# Altium footprint library pcb_mk32_dsd_2022-03-23.PcbLib: 35 footprints (part 3 of 3)
Each footprint in its own frame and in the unit in brackets; x right, y up, seen from the top. Pads: shape width x height; smd on the part's side, far side on the other; paste and mask are expansions set on the pad; w line width, h text height; cw(c..) or ccw(c..) is an arc to the next point about the centre after c.
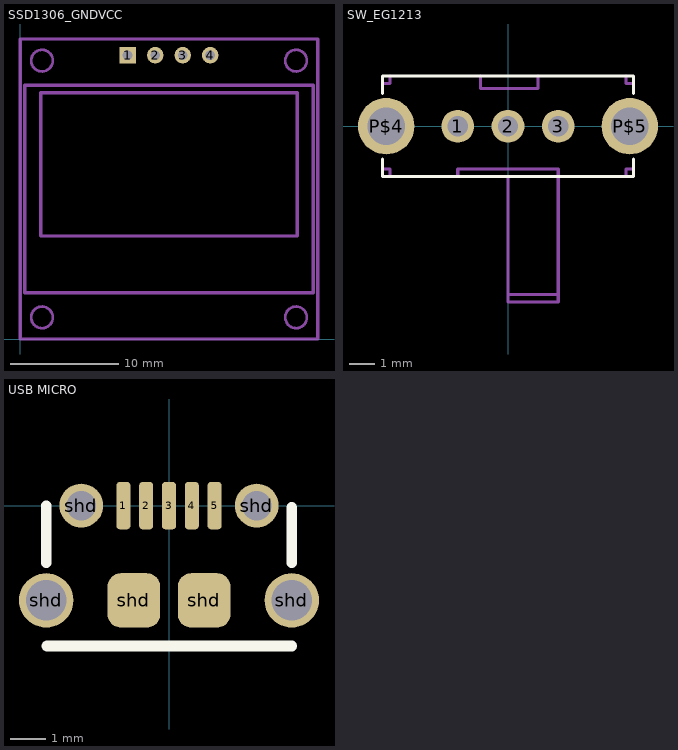
[diagram p2: the footprints below, top view; thin cyan lines are the x and y axes]

## SSD1306_GNDVCC [mil]
pads (4):
  rect 60x60 hole 36: 1(390.59,1033.48)
  round 60 hole 36: 2(491.3,1033.5) 3(591.3,1033.5) 4(691.3,1033.5)
Mechanical 15:
  circle w10: c1003.94,78.74 r39.37
  circle w10: c78.74,78.74 r39.37
  circle w10: c1003.94,1013.78 r39.37
  circle w10: c78.74,1013.78 r39.37
  lines w12: 0,0 0,1092.52 1082.68,1092.52 1082.68,0 0,0 ; 15.75,168.5 15.75,924.01 1066.93,924.01 1066.93,168.5 15.75,168.5 ; 74.8,374.8 74.8,896.45 1007.87,896.45 1007.87,374.8 74.8,374.8
  text "SSD1306 128x64" at 169.2,39.5 h62.99
  text "SDA" at 635.6,941.6 h31.5
  text "SCL" at 543.1,942 h31.5
  text "GND" at 341.2,941.2 h31.5
  text "VCC" at 438.83,941.2 h31.5

## SW_EG1213 [mm]
pads (5):
  round 1.308 hole 0.8: 1(-2,0) 2(0,0) 3(2,0)
  round 2.25 hole 1.5: P$4(-4.85,0) P$5(4.85,0)
Top Overlay:
  lines w0.127: -5,-1.3 -5,-2 -2,-2 0,-2 2,-2 5,-2 5,-1.3 ; -5,1.3 -5,2 5,2 5,1.3
Mechanical 13:
  lines w0.127: -5,-1.7 -4.7,-1.7 -4.7,-2 ; -5,1.7 -4.7,1.7 -4.7,2 ; -2,-2 -2,-1.7 2,-1.7 2,-6.7 ; -1.1,2 -1.1,1.5 1.2,1.5 1.2,2 ; 0,-2 0,-6.7 ; 4.7,-2 4.7,-1.7 5,-1.7 ; 4.7,2 4.7,1.7 5,1.7 ; 0,-6.7 0,-7 2,-7 2,-6.7 ; 0,-6.7 2,-6.7
3D body "EG1213.stp": height 4.92, standoff -2.98, extent -5,-6.9 5,1.9

## USB MICRO [mm]
pads (11):
  rrect50% 0.4x1.35 smd: 1(-1.3,0) 2(-0.65,0) 3(0,0) 4(0.65,0) 5(1.3,0)
  round 1.55 hole 1.15: shd(-3.5,-2.7) shd(3.5,-2.7)
  round 1.25 hole 0.85: shd(-2.5,0) shd(2.5,0)
  rrect50% 1.5x1.55 smd: shd(-1,-2.7) shd(1,-2.7)
Top Overlay:
  lines w0.305: -3.5,-1.625 -3.5,0 ; -3.475,-4 3.5,-4 ; 3.5,-1.625 3.5,-0.05
3D body "micro USB.STEP": height 2.68, standoff -0.24, extent -3.962,-5.101 4.012,0.325